# EAGLE library part INA129P (library IntegratedLib)
AMPOP de Instrumentacao de Precisao Low Power (DIP-8)
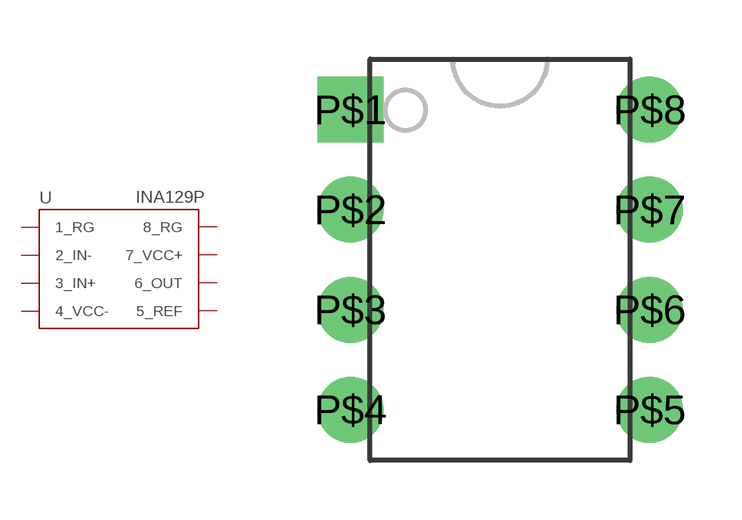
[diagram p19: symbol with the pads of DIP-8; footprint DIP-8]

Designator prefix U

## INA129P (FABRICANTE: TEXAS INSTRUMENTS; PARTNUMBER: INA129P; TIPO: CIRCUITO INTEGRADO)  [DIP-8]
P$1  1_RG
P$2  2_IN-
P$3  3_IN+
P$4  4_VCC-
P$5  5_REF
P$6  6_OUT
P$7  7_VCC+
P$8  8_RG

## Footprint DIP-8 (pad centres in mm)
drill 1 pad 1.676 square: P$1 -3.8,3.81
drill 1 pad 1.676: P$2 -3.8,1.27; P$3 -3.8,-1.27; P$4 -3.8,-3.81; P$5 3.8,-3.81; P$6 3.8,-1.27; P$7 3.8,1.27; P$8 3.8,3.81